# Altium schematic symbol library jlcpcb_2025_04_resistors_basic.schlib: 182 symbols (part 2 of 3)
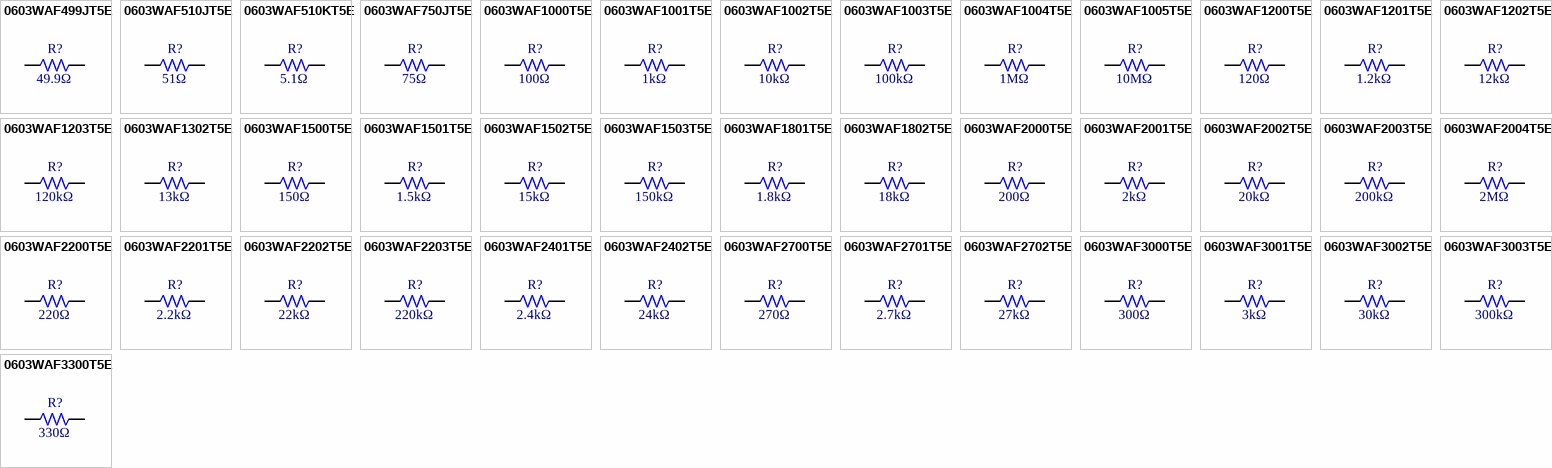
[diagram p5: symbols 0603WAF499JT5E to 0603WAF3300T5E]

## 0603WAF2001T5E
designator R?  Resistance: 2kΩ  (hidden comment: *)
Resistor, 2kΩ, ±1%, 100mW, 75V, ±100ppm/℃, -55℃~+155℃, SMD 0603; Manufacturer: Uniroyal; Manufacturer Part Number: 0603WAF2001T5E; Supplier 1: LCSC; Supplier Part Number 1: C22975; JLCPCB Part Number: C22975; Power Rating: 100mW; Category: Resistors; Package Size: 0603; JLCPCB Basic Part: Yes; Tolerance: ±1%; Voltage Rating: 75V; Temperature Coefficient: ±100ppm/℃; Temperature Rating: -55℃~+155℃; ComponentLink1Description: Datasheet; ComponentLink1URL: https://wmsc.lcsc.com/wmsc/upload/file/pdf/v2/lcsc/2206010116_UNI-ROYAL-Uniroyal-Elec-0603WAF2001T5E_C22975.pdf; ComponentLink2Description: JLCPCB Part URL; ComponentLink2URL: https://jlcpcb.com/partdetail/C22975
pins: 1, 2
1 alternate drawing of the same symbol

## 0603WAF2002T5E
designator R?  Resistance: 20kΩ  (hidden comment: *)
Resistor, 20kΩ, ±1%, 100mW, 75V, ±100ppm/℃, -55℃~+155℃, SMD 0603; Manufacturer: Uniroyal; Manufacturer Part Number: 0603WAF2002T5E; Supplier 1: LCSC; Supplier Part Number 1: C4184; JLCPCB Part Number: C4184; Power Rating: 100mW; Category: Resistors; Package Size: 0603; JLCPCB Basic Part: Yes; Tolerance: ±1%; Voltage Rating: 75V; Temperature Coefficient: ±100ppm/℃; Temperature Rating: -55℃~+155℃; ComponentLink1Description: Datasheet; ComponentLink1URL: https://wmsc.lcsc.com/wmsc/upload/file/pdf/v2/lcsc/2206010230_UNI-ROYAL-Uniroyal-Elec-0603WAF2002T5E_C4184.pdf; ComponentLink2Description: JLCPCB Part URL; ComponentLink2URL: https://jlcpcb.com/partdetail/C4184
pins: 1, 2
1 alternate drawing of the same symbol

## 0603WAF2003T5E
designator R?  Resistance: 200kΩ  (hidden comment: *)
Resistor, 200kΩ, ±1%, 100mW, 75V, ±100ppm/℃, -55℃~+155℃, SMD 0603; Manufacturer: Uniroyal; Manufacturer Part Number: 0603WAF2003T5E; Supplier 1: LCSC; Supplier Part Number 1: C25811; JLCPCB Part Number: C25811; Power Rating: 100mW; Category: Resistors; Package Size: 0603; JLCPCB Basic Part: Yes; Tolerance: ±1%; Voltage Rating: 75V; Temperature Coefficient: ±100ppm/℃; Temperature Rating: -55℃~+155℃; ComponentLink1Description: Datasheet; ComponentLink1URL: https://wmsc.lcsc.com/wmsc/upload/file/pdf/v2/lcsc/2206010045_UNI-ROYAL-Uniroyal-Elec-0603WAF2003T5E_C25811.pdf; ComponentLink2Description: JLCPCB Part URL; ComponentLink2URL: https://jlcpcb.com/partdetail/C25811
pins: 1, 2
1 alternate drawing of the same symbol

## 0603WAF2004T5E
designator R?  Resistance: 2MΩ  (hidden comment: *)
Resistor, 2MΩ, ±1%, 100mW, 75V, ±100ppm/℃, -55℃~+155℃, SMD 0603; Manufacturer: Uniroyal; Manufacturer Part Number: 0603WAF2004T5E; Supplier 1: LCSC; Supplier Part Number 1: C22976; JLCPCB Part Number: C22976; Power Rating: 100mW; Category: Resistors; Package Size: 0603; JLCPCB Basic Part: Yes; Tolerance: ±1%; Voltage Rating: 75V; Temperature Coefficient: ±100ppm/℃; Temperature Rating: -55℃~+155℃; ComponentLink1Description: Datasheet; ComponentLink1URL: https://wmsc.lcsc.com/wmsc/upload/file/pdf/v2/lcsc/2206010116_UNI-ROYAL-Uniroyal-Elec-0603WAF2004T5E_C22976.pdf; ComponentLink2Description: JLCPCB Part URL; ComponentLink2URL: https://jlcpcb.com/partdetail/C22976
pins: 1, 2
1 alternate drawing of the same symbol

## 0603WAF2200T5E
designator R?  Resistance: 220Ω  (hidden comment: *)
Resistor, 220Ω, ±1%, 100mW, 75V, ±100ppm/℃, -55℃~+155℃, SMD 0603; Manufacturer: Uniroyal; Manufacturer Part Number: 0603WAF2200T5E; Supplier 1: LCSC; Supplier Part Number 1: C22962; JLCPCB Part Number: C22962; Power Rating: 100mW; Category: Resistors; Package Size: 0603; JLCPCB Basic Part: Yes; Tolerance: ±1%; Voltage Rating: 75V; Temperature Coefficient: ±100ppm/℃; Temperature Rating: -55℃~+155℃; ComponentLink1Description: Datasheet; ComponentLink1URL: https://wmsc.lcsc.com/wmsc/upload/file/pdf/v2/lcsc/2206010130_UNI-ROYAL-Uniroyal-Elec-0603WAF2200T5E_C22962.pdf; ComponentLink2Description: JLCPCB Part URL; ComponentLink2URL: https://jlcpcb.com/partdetail/C22962
pins: 1, 2
1 alternate drawing of the same symbol

## 0603WAF2201T5E
designator R?  Resistance: 2.2kΩ  (hidden comment: *)
Resistor, 2.2kΩ, ±1%, 100mW, 75V, ±100ppm/℃, -55℃~+155℃, SMD 0603; Manufacturer: Uniroyal; Manufacturer Part Number: 0603WAF2201T5E; Supplier 1: LCSC; Supplier Part Number 1: C4190; JLCPCB Part Number: C4190; Power Rating: 100mW; Category: Resistors; Package Size: 0603; JLCPCB Basic Part: Yes; Tolerance: ±1%; Voltage Rating: 75V; Temperature Coefficient: ±100ppm/℃; Temperature Rating: -55℃~+155℃; ComponentLink1Description: Datasheet; ComponentLink1URL: https://wmsc.lcsc.com/wmsc/upload/file/pdf/v2/lcsc/2206010230_UNI-ROYAL-Uniroyal-Elec-0603WAF2201T5E_C4190.pdf; ComponentLink2Description: JLCPCB Part URL; ComponentLink2URL: https://jlcpcb.com/partdetail/C4190
pins: 1, 2
1 alternate drawing of the same symbol

## 0603WAF2202T5E
designator R?  Resistance: 22kΩ  (hidden comment: *)
Resistor, 22kΩ, ±1%, 100mW, 75V, ±100ppm/℃, -55℃~+155℃, SMD 0603; Manufacturer: Uniroyal; Manufacturer Part Number: 0603WAF2202T5E; Supplier 1: LCSC; Supplier Part Number 1: C31850; JLCPCB Part Number: C31850; Power Rating: 100mW; Category: Resistors; Package Size: 0603; JLCPCB Basic Part: Yes; Tolerance: ±1%; Voltage Rating: 75V; Temperature Coefficient: ±100ppm/℃; Temperature Rating: -55℃~+155℃; ComponentLink1Description: Datasheet; ComponentLink1URL: https://wmsc.lcsc.com/wmsc/upload/file/pdf/v2/lcsc/2206010030_UNI-ROYAL-Uniroyal-Elec-0603WAF2202T5E_C31850.pdf; ComponentLink2Description: JLCPCB Part URL; ComponentLink2URL: https://jlcpcb.com/partdetail/C31850
pins: 1, 2
1 alternate drawing of the same symbol

## 0603WAF2203T5E
designator R?  Resistance: 220kΩ  (hidden comment: *)
Resistor, 220kΩ, ±1%, 100mW, 75V, ±100ppm/℃, -55℃~+155℃, SMD 0603; Manufacturer: Uniroyal; Manufacturer Part Number: 0603WAF2203T5E; Supplier 1: LCSC; Supplier Part Number 1: C22961; JLCPCB Part Number: C22961; Power Rating: 100mW; Category: Resistors; Package Size: 0603; JLCPCB Basic Part: Yes; Tolerance: ±1%; Voltage Rating: 75V; Temperature Coefficient: ±100ppm/℃; Temperature Rating: -55℃~+155℃; ComponentLink1Description: Datasheet; ComponentLink1URL: https://wmsc.lcsc.com/wmsc/upload/file/pdf/v2/lcsc/2206010130_UNI-ROYAL-Uniroyal-Elec-0603WAF2203T5E_C22961.pdf; ComponentLink2Description: JLCPCB Part URL; ComponentLink2URL: https://jlcpcb.com/partdetail/C22961
pins: 1, 2
1 alternate drawing of the same symbol

## 0603WAF2401T5E
designator R?  Resistance: 2.4kΩ  (hidden comment: *)
Resistor, 2.4kΩ, ±1%, 100mW, 75V, ±100ppm/℃, -55℃~+155℃, SMD 0603; Manufacturer: Uniroyal; Manufacturer Part Number: 0603WAF2401T5E; Supplier 1: LCSC; Supplier Part Number 1: C22940; JLCPCB Part Number: C22940; Power Rating: 100mW; Category: Resistors; Package Size: 0603; JLCPCB Basic Part: Yes; Tolerance: ±1%; Voltage Rating: 75V; Temperature Coefficient: ±100ppm/℃; Temperature Rating: -55℃~+155℃; ComponentLink1Description: Datasheet; ComponentLink1URL: https://wmsc.lcsc.com/wmsc/upload/file/pdf/v2/lcsc/2206010130_UNI-ROYAL-Uniroyal-Elec-0603WAF2401T5E_C22940.pdf; ComponentLink2Description: JLCPCB Part URL; ComponentLink2URL: https://jlcpcb.com/partdetail/C22940
pins: 1, 2
1 alternate drawing of the same symbol

## 0603WAF2402T5E
designator R?  Resistance: 24kΩ  (hidden comment: *)
Resistor, 24kΩ, ±1%, 100mW, 75V, ±100ppm/℃, -55℃~+155℃, SMD 0603; Manufacturer: Uniroyal; Manufacturer Part Number: 0603WAF2402T5E; Supplier 1: LCSC; Supplier Part Number 1: C23352; JLCPCB Part Number: C23352; Power Rating: 100mW; Category: Resistors; Package Size: 0603; JLCPCB Basic Part: Yes; Tolerance: ±1%; Voltage Rating: 75V; Temperature Coefficient: ±100ppm/℃; Temperature Rating: -55℃~+155℃; ComponentLink1Description: Datasheet; ComponentLink1URL: https://wmsc.lcsc.com/wmsc/upload/file/pdf/v2/lcsc/2206010100_UNI-ROYAL-Uniroyal-Elec-0603WAF2402T5E_C23352.pdf; ComponentLink2Description: JLCPCB Part URL; ComponentLink2URL: https://jlcpcb.com/partdetail/C23352
pins: 1, 2
1 alternate drawing of the same symbol

## 0603WAF2700T5E
designator R?  Resistance: 270Ω  (hidden comment: *)
Resistor, 270Ω, ±1%, 100mW, 75V, ±100ppm/℃, -55℃~+155℃, SMD 0603; Manufacturer: Uniroyal; Manufacturer Part Number: 0603WAF2700T5E; Supplier 1: LCSC; Supplier Part Number 1: C22966; JLCPCB Part Number: C22966; Power Rating: 100mW; Category: Resistors; Package Size: 0603; JLCPCB Basic Part: Yes; Tolerance: ±1%; Voltage Rating: 75V; Temperature Coefficient: ±100ppm/℃; Temperature Rating: -55℃~+155℃; ComponentLink1Description: Datasheet; ComponentLink1URL: https://wmsc.lcsc.com/wmsc/upload/file/pdf/v2/lcsc/2206010130_UNI-ROYAL-Uniroyal-Elec-0603WAF2700T5E_C22966.pdf; ComponentLink2Description: JLCPCB Part URL; ComponentLink2URL: https://jlcpcb.com/partdetail/C22966
pins: 1, 2
1 alternate drawing of the same symbol

## 0603WAF2701T5E
designator R?  Resistance: 2.7kΩ  (hidden comment: *)
Resistor, 2.7kΩ, ±1%, 100mW, 75V, ±100ppm/℃, -55℃~+155℃, SMD 0603; Manufacturer: Uniroyal; Manufacturer Part Number: 0603WAF2701T5E; Supplier 1: LCSC; Supplier Part Number 1: C13167; JLCPCB Part Number: C13167; Power Rating: 100mW; Category: Resistors; Package Size: 0603; JLCPCB Basic Part: Yes; Tolerance: ±1%; Voltage Rating: 75V; Temperature Coefficient: ±100ppm/℃; Temperature Rating: -55℃~+155℃; ComponentLink1Description: Datasheet; ComponentLink1URL: https://wmsc.lcsc.com/wmsc/upload/file/pdf/v2/lcsc/2206010216_UNI-ROYAL-Uniroyal-Elec-0603WAF2701T5E_C13167.pdf; ComponentLink2Description: JLCPCB Part URL; ComponentLink2URL: https://jlcpcb.com/partdetail/C13167
pins: 1, 2
1 alternate drawing of the same symbol

## 0603WAF2702T5E
designator R?  Resistance: 27kΩ  (hidden comment: *)
Resistor, 27kΩ, ±1%, 100mW, 75V, ±100ppm/℃, -55℃~+155℃, SMD 0603; Manufacturer: Uniroyal; Manufacturer Part Number: 0603WAF2702T5E; Supplier 1: LCSC; Supplier Part Number 1: C22967; JLCPCB Part Number: C22967; Power Rating: 100mW; Category: Resistors; Package Size: 0603; JLCPCB Basic Part: Yes; Tolerance: ±1%; Voltage Rating: 75V; Temperature Coefficient: ±100ppm/℃; Temperature Rating: -55℃~+155℃; ComponentLink1Description: Datasheet; ComponentLink1URL: https://wmsc.lcsc.com/wmsc/upload/file/pdf/v2/lcsc/2206010130_UNI-ROYAL-Uniroyal-Elec-0603WAF2702T5E_C22967.pdf; ComponentLink2Description: JLCPCB Part URL; ComponentLink2URL: https://jlcpcb.com/partdetail/C22967
pins: 1, 2
1 alternate drawing of the same symbol

## 0603WAF3000T5E
designator R?  Resistance: 300Ω  (hidden comment: *)
Resistor, 300Ω, ±1%, 100mW, 75V, ±100ppm/℃, -55℃~+155℃, SMD 0603; Manufacturer: Uniroyal; Manufacturer Part Number: 0603WAF3000T5E; Supplier 1: LCSC; Supplier Part Number 1: C23025; JLCPCB Part Number: C23025; Power Rating: 100mW; Category: Resistors; Package Size: 0603; JLCPCB Basic Part: Yes; Tolerance: ±1%; Voltage Rating: 75V; Temperature Coefficient: ±100ppm/℃; Temperature Rating: -55℃~+155℃; ComponentLink1Description: Datasheet; ComponentLink1URL: https://wmsc.lcsc.com/wmsc/upload/file/pdf/v2/lcsc/2206010116_UNI-ROYAL-Uniroyal-Elec-0603WAF3000T5E_C23025.pdf; ComponentLink2Description: JLCPCB Part URL; ComponentLink2URL: https://jlcpcb.com/partdetail/C23025
pins: 1, 2
1 alternate drawing of the same symbol

## 0603WAF3001T5E
designator R?  Resistance: 3kΩ  (hidden comment: *)
Resistor, 3kΩ, ±1%, 100mW, 75V, ±100ppm/℃, -55℃~+155℃, SMD 0603; Manufacturer: Uniroyal; Manufacturer Part Number: 0603WAF3001T5E; Supplier 1: LCSC; Supplier Part Number 1: C4211; JLCPCB Part Number: C4211; Power Rating: 100mW; Category: Resistors; Package Size: 0603; JLCPCB Basic Part: Yes; Tolerance: ±1%; Voltage Rating: 75V; Temperature Coefficient: ±100ppm/℃; Temperature Rating: -55℃~+155℃; ComponentLink1Description: Datasheet; ComponentLink1URL: https://wmsc.lcsc.com/wmsc/upload/file/pdf/v2/lcsc/2206010230_UNI-ROYAL-Uniroyal-Elec-0603WAF3001T5E_C4211.pdf; ComponentLink2Description: JLCPCB Part URL; ComponentLink2URL: https://jlcpcb.com/partdetail/C4211
pins: 1, 2
1 alternate drawing of the same symbol

## 0603WAF3002T5E
designator R?  Resistance: 30kΩ  (hidden comment: *)
Resistor, 30kΩ, ±1%, 100mW, 75V, ±100ppm/℃, -55℃~+155℃, SMD 0603; Manufacturer: Uniroyal; Manufacturer Part Number: 0603WAF3002T5E; Supplier 1: LCSC; Supplier Part Number 1: C22984; JLCPCB Part Number: C22984; Power Rating: 100mW; Category: Resistors; Package Size: 0603; JLCPCB Basic Part: Yes; Tolerance: ±1%; Voltage Rating: 75V; Temperature Coefficient: ±100ppm/℃; Temperature Rating: -55℃~+155℃; ComponentLink1Description: Datasheet; ComponentLink1URL: https://wmsc.lcsc.com/wmsc/upload/file/pdf/v2/lcsc/2206010116_UNI-ROYAL-Uniroyal-Elec-0603WAF3002T5E_C22984.pdf; ComponentLink2Description: JLCPCB Part URL; ComponentLink2URL: https://jlcpcb.com/partdetail/C22984
pins: 1, 2
1 alternate drawing of the same symbol

## 0603WAF3003T5E
designator R?  Resistance: 300kΩ  (hidden comment: *)
Resistor, 300kΩ, ±1%, 100mW, 75V, ±100ppm/℃, -55℃~+155℃, SMD 0603; Manufacturer: Uniroyal; Manufacturer Part Number: 0603WAF3003T5E; Supplier 1: LCSC; Supplier Part Number 1: C23024; JLCPCB Part Number: C23024; Power Rating: 100mW; Category: Resistors; Package Size: 0603; JLCPCB Basic Part: Yes; Tolerance: ±1%; Voltage Rating: 75V; Temperature Coefficient: ±100ppm/℃; Temperature Rating: -55℃~+155℃; ComponentLink1Description: Datasheet; ComponentLink1URL: https://wmsc.lcsc.com/wmsc/upload/file/pdf/v2/lcsc/2206010116_UNI-ROYAL-Uniroyal-Elec-0603WAF3003T5E_C23024.pdf; ComponentLink2Description: JLCPCB Part URL; ComponentLink2URL: https://jlcpcb.com/partdetail/C23024
pins: 1, 2
1 alternate drawing of the same symbol

## 0603WAF3300T5E
designator R?  Resistance: 330Ω  (hidden comment: *)
Resistor, 330Ω, ±1%, 100mW, 75V, ±100ppm/℃, -55℃~+155℃, SMD 0603; Manufacturer: Uniroyal; Manufacturer Part Number: 0603WAF3300T5E; Supplier 1: LCSC; Supplier Part Number 1: C23138; JLCPCB Part Number: C23138; Power Rating: 100mW; Category: Resistors; Package Size: 0603; JLCPCB Basic Part: Yes; Tolerance: ±1%; Voltage Rating: 75V; Temperature Coefficient: ±100ppm/℃; Temperature Rating: -55℃~+155℃; ComponentLink1Description: Datasheet; ComponentLink1URL: https://wmsc.lcsc.com/wmsc/upload/file/pdf/v2/lcsc/2206010116_UNI-ROYAL-Uniroyal-Elec-0603WAF3300T5E_C23138.pdf; ComponentLink2Description: JLCPCB Part URL; ComponentLink2URL: https://jlcpcb.com/partdetail/C23138
pins: 1, 2
1 alternate drawing of the same symbol

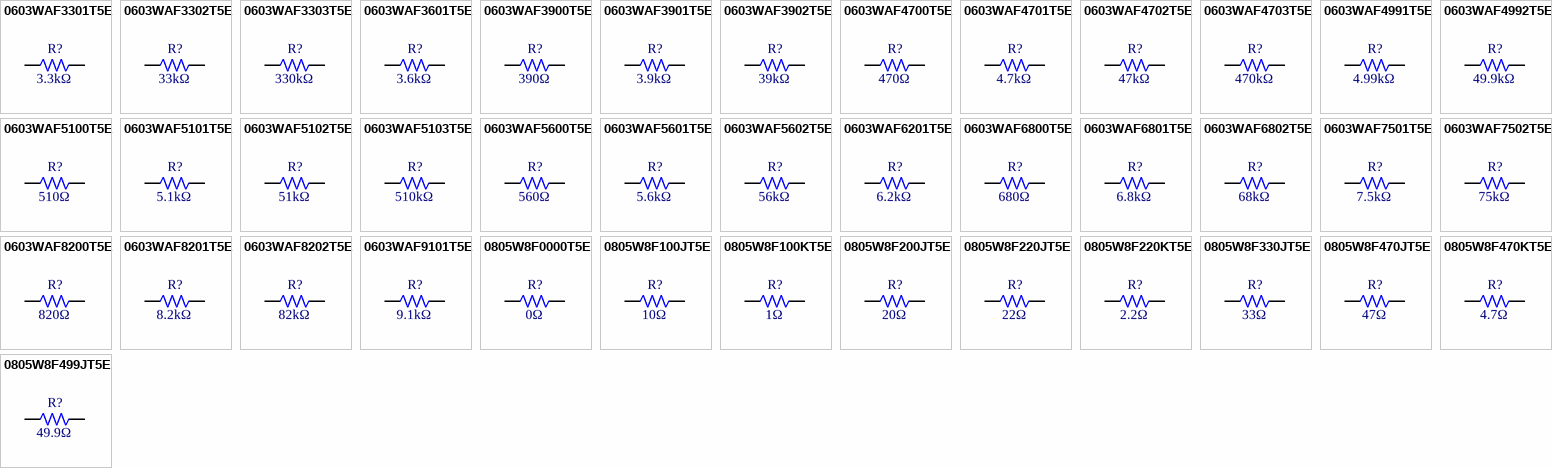
[diagram p2: symbols 0603WAF3301T5E to 0805W8F499JT5E]

## 0603WAF3301T5E
designator R?  Resistance: 3.3kΩ  (hidden comment: *)
Resistor, 3.3kΩ, ±1%, 100mW, 75V, ±100ppm/℃, -55℃~+155℃, SMD 0603; Manufacturer: Uniroyal; Manufacturer Part Number: 0603WAF3301T5E; Supplier 1: LCSC; Supplier Part Number 1: C22978; JLCPCB Part Number: C22978; Power Rating: 100mW; Category: Resistors; Package Size: 0603; JLCPCB Basic Part: Yes; Tolerance: ±1%; Voltage Rating: 75V; Temperature Coefficient: ±100ppm/℃; Temperature Rating: -55℃~+155℃; ComponentLink1Description: Datasheet; ComponentLink1URL: https://wmsc.lcsc.com/wmsc/upload/file/pdf/v2/lcsc/2206010116_UNI-ROYAL-Uniroyal-Elec-0603WAF3301T5E_C22978.pdf; ComponentLink2Description: JLCPCB Part URL; ComponentLink2URL: https://jlcpcb.com/partdetail/C22978
pins: 1, 2
1 alternate drawing of the same symbol

## 0603WAF3302T5E
designator R?  Resistance: 33kΩ  (hidden comment: *)
Resistor, 33kΩ, ±1%, 100mW, 75V, ±100ppm/℃, -55℃~+155℃, SMD 0603; Manufacturer: Uniroyal; Manufacturer Part Number: 0603WAF3302T5E; Supplier 1: LCSC; Supplier Part Number 1: C4216; JLCPCB Part Number: C4216; Power Rating: 100mW; Category: Resistors; Package Size: 0603; JLCPCB Basic Part: Yes; Tolerance: ±1%; Voltage Rating: 75V; Temperature Coefficient: ±100ppm/℃; Temperature Rating: -55℃~+155℃; ComponentLink1Description: Datasheet; ComponentLink1URL: https://wmsc.lcsc.com/wmsc/upload/file/pdf/v2/lcsc/2206010230_UNI-ROYAL-Uniroyal-Elec-0603WAF3302T5E_C4216.pdf; ComponentLink2Description: JLCPCB Part URL; ComponentLink2URL: https://jlcpcb.com/partdetail/C4216
pins: 1, 2
1 alternate drawing of the same symbol

## 0603WAF3303T5E
designator R?  Resistance: 330kΩ  (hidden comment: *)
Resistor, 330kΩ, ±1%, 100mW, 75V, ±100ppm/℃, -55℃~+155℃, SMD 0603; Manufacturer: Uniroyal; Manufacturer Part Number: 0603WAF3303T5E; Supplier 1: LCSC; Supplier Part Number 1: C23137; JLCPCB Part Number: C23137; Power Rating: 100mW; Category: Resistors; Package Size: 0603; JLCPCB Basic Part: Yes; Tolerance: ±1%; Voltage Rating: 75V; Temperature Coefficient: ±100ppm/℃; Temperature Rating: -55℃~+155℃; ComponentLink1Description: Datasheet; ComponentLink1URL: https://wmsc.lcsc.com/wmsc/upload/file/pdf/v2/lcsc/2206010116_UNI-ROYAL-Uniroyal-Elec-0603WAF3303T5E_C23137.pdf; ComponentLink2Description: JLCPCB Part URL; ComponentLink2URL: https://jlcpcb.com/partdetail/C23137
pins: 1, 2
1 alternate drawing of the same symbol

## 0603WAF3601T5E
designator R?  Resistance: 3.6kΩ  (hidden comment: *)
Resistor, 3.6kΩ, ±1%, 100mW, 75V, ±100ppm/℃, -55℃~+155℃, SMD 0603; Manufacturer: Uniroyal; Manufacturer Part Number: 0603WAF3601T5E; Supplier 1: LCSC; Supplier Part Number 1: C22980; JLCPCB Part Number: C22980; Power Rating: 100mW; Category: Resistors; Package Size: 0603; JLCPCB Basic Part: Yes; Tolerance: ±1%; Voltage Rating: 75V; Temperature Coefficient: ±100ppm/℃; Temperature Rating: -55℃~+155℃; ComponentLink1Description: Datasheet; ComponentLink1URL: https://wmsc.lcsc.com/wmsc/upload/file/pdf/v2/lcsc/2206010116_UNI-ROYAL-Uniroyal-Elec-0603WAF3601T5E_C22980.pdf; ComponentLink2Description: JLCPCB Part URL; ComponentLink2URL: https://jlcpcb.com/partdetail/C22980
pins: 1, 2
1 alternate drawing of the same symbol

## 0603WAF3900T5E
designator R?  Resistance: 390Ω  (hidden comment: *)
Resistor, 390Ω, ±1%, 100mW, 75V, ±100ppm/℃, -55℃~+155℃, SMD 0603; Manufacturer: Uniroyal; Manufacturer Part Number: 0603WAF3900T5E; Supplier 1: LCSC; Supplier Part Number 1: C23151; JLCPCB Part Number: C23151; Power Rating: 100mW; Category: Resistors; Package Size: 0603; JLCPCB Basic Part: Yes; Tolerance: ±1%; Voltage Rating: 75V; Temperature Coefficient: ±100ppm/℃; Temperature Rating: -55℃~+155℃; ComponentLink1Description: Datasheet; ComponentLink1URL: https://wmsc.lcsc.com/wmsc/upload/file/pdf/v2/lcsc/2206010116_UNI-ROYAL-Uniroyal-Elec-0603WAF3900T5E_C23151.pdf; ComponentLink2Description: JLCPCB Part URL; ComponentLink2URL: https://jlcpcb.com/partdetail/C23151
pins: 1, 2
1 alternate drawing of the same symbol

## 0603WAF3901T5E
designator R?  Resistance: 3.9kΩ  (hidden comment: *)
Resistor, 3.9kΩ, ±1%, 100mW, 75V, ±100ppm/℃, -55℃~+155℃, SMD 0603; Manufacturer: Uniroyal; Manufacturer Part Number: 0603WAF3901T5E; Supplier 1: LCSC; Supplier Part Number 1: C23018; JLCPCB Part Number: C23018; Power Rating: 100mW; Category: Resistors; Package Size: 0603; JLCPCB Basic Part: Yes; Tolerance: ±1%; Voltage Rating: 75V; Temperature Coefficient: ±100ppm/℃; Temperature Rating: -55℃~+155℃; ComponentLink1Description: Datasheet; ComponentLink1URL: https://wmsc.lcsc.com/wmsc/upload/file/pdf/v2/lcsc/2206010116_UNI-ROYAL-Uniroyal-Elec-0603WAF3901T5E_C23018.pdf; ComponentLink2Description: JLCPCB Part URL; ComponentLink2URL: https://jlcpcb.com/partdetail/C23018
pins: 1, 2
1 alternate drawing of the same symbol

## 0603WAF3902T5E
designator R?  Resistance: 39kΩ  (hidden comment: *)
Resistor, 39kΩ, ±1%, 100mW, 75V, ±100ppm/℃, -55℃~+155℃, SMD 0603; Manufacturer: Uniroyal; Manufacturer Part Number: 0603WAF3902T5E; Supplier 1: LCSC; Supplier Part Number 1: C23153; JLCPCB Part Number: C23153; Power Rating: 100mW; Category: Resistors; Package Size: 0603; JLCPCB Basic Part: Yes; Tolerance: ±1%; Voltage Rating: 75V; Temperature Coefficient: ±100ppm/℃; Temperature Rating: -55℃~+155℃; ComponentLink1Description: Datasheet; ComponentLink1URL: https://wmsc.lcsc.com/wmsc/upload/file/pdf/v2/lcsc/2206010116_UNI-ROYAL-Uniroyal-Elec-0603WAF3902T5E_C23153.pdf; ComponentLink2Description: JLCPCB Part URL; ComponentLink2URL: https://jlcpcb.com/partdetail/C23153
pins: 1, 2
1 alternate drawing of the same symbol

## 0603WAF4700T5E
designator R?  Resistance: 470Ω  (hidden comment: *)
Resistor, 470Ω, ±1%, 100mW, 75V, ±100ppm/℃, -55℃~+155℃, SMD 0603; Manufacturer: Uniroyal; Manufacturer Part Number: 0603WAF4700T5E; Supplier 1: LCSC; Supplier Part Number 1: C23179; JLCPCB Part Number: C23179; Power Rating: 100mW; Category: Resistors; Package Size: 0603; JLCPCB Basic Part: Yes; Tolerance: ±1%; Voltage Rating: 75V; Temperature Coefficient: ±100ppm/℃; Temperature Rating: -55℃~+155℃; ComponentLink1Description: Datasheet; ComponentLink1URL: https://wmsc.lcsc.com/wmsc/upload/file/pdf/v2/lcsc/2206010116_UNI-ROYAL-Uniroyal-Elec-0603WAF4700T5E_C23179.pdf; ComponentLink2Description: JLCPCB Part URL; ComponentLink2URL: https://jlcpcb.com/partdetail/C23179
pins: 1, 2
1 alternate drawing of the same symbol

## 0603WAF4701T5E
designator R?  Resistance: 4.7kΩ  (hidden comment: *)
Resistor, 4.7kΩ, ±1%, 100mW, 75V, ±100ppm/℃, -55℃~+155℃, SMD 0603; Manufacturer: Uniroyal; Manufacturer Part Number: 0603WAF4701T5E; Supplier 1: LCSC; Supplier Part Number 1: C23162; JLCPCB Part Number: C23162; Power Rating: 100mW; Category: Resistors; Package Size: 0603; JLCPCB Basic Part: Yes; Tolerance: ±1%; Voltage Rating: 75V; Temperature Coefficient: ±100ppm/℃; Temperature Rating: -55℃~+155℃; ComponentLink1Description: Datasheet; ComponentLink1URL: https://wmsc.lcsc.com/wmsc/upload/file/pdf/v2/lcsc/2206010116_UNI-ROYAL-Uniroyal-Elec-0603WAF4701T5E_C23162.pdf; ComponentLink2Description: JLCPCB Part URL; ComponentLink2URL: https://jlcpcb.com/partdetail/C23162
pins: 1, 2
1 alternate drawing of the same symbol

## 0603WAF4702T5E
designator R?  Resistance: 47kΩ  (hidden comment: *)
Resistor, 47kΩ, ±1%, 100mW, 75V, ±100ppm/℃, -55℃~+155℃, SMD 0603; Manufacturer: Uniroyal; Manufacturer Part Number: 0603WAF4702T5E; Supplier 1: LCSC; Supplier Part Number 1: C25819; JLCPCB Part Number: C25819; Power Rating: 100mW; Category: Resistors; Package Size: 0603; JLCPCB Basic Part: Yes; Tolerance: ±1%; Voltage Rating: 75V; Temperature Coefficient: ±100ppm/℃; Temperature Rating: -55℃~+155℃; ComponentLink1Description: Datasheet; ComponentLink1URL: https://wmsc.lcsc.com/wmsc/upload/file/pdf/v2/lcsc/2206010045_UNI-ROYAL-Uniroyal-Elec-0603WAF4702T5E_C25819.pdf; ComponentLink2Description: JLCPCB Part URL; ComponentLink2URL: https://jlcpcb.com/partdetail/C25819
pins: 1, 2
1 alternate drawing of the same symbol

## 0603WAF4703T5E
designator R?  Resistance: 470kΩ  (hidden comment: *)
Resistor, 470kΩ, ±1%, 100mW, 75V, ±100ppm/℃, -55℃~+155℃, SMD 0603; Manufacturer: Uniroyal; Manufacturer Part Number: 0603WAF4703T5E; Supplier 1: LCSC; Supplier Part Number 1: C23178; JLCPCB Part Number: C23178; Power Rating: 100mW; Category: Resistors; Package Size: 0603; JLCPCB Basic Part: Yes; Tolerance: ±1%; Voltage Rating: 75V; Temperature Coefficient: ±100ppm/℃; Temperature Rating: -55℃~+155℃; ComponentLink1Description: Datasheet; ComponentLink1URL: https://wmsc.lcsc.com/wmsc/upload/file/pdf/v2/lcsc/2206010116_UNI-ROYAL-Uniroyal-Elec-0603WAF4703T5E_C23178.pdf; ComponentLink2Description: JLCPCB Part URL; ComponentLink2URL: https://jlcpcb.com/partdetail/C23178
pins: 1, 2
1 alternate drawing of the same symbol

## 0603WAF4991T5E
designator R?  Resistance: 4.99kΩ  (hidden comment: *)
Resistor, 4.99kΩ, ±1%, 100mW, 75V, ±100ppm/℃, -55℃~+155℃, SMD 0603; Manufacturer: Uniroyal; Manufacturer Part Number: 0603WAF4991T5E; Supplier 1: LCSC; Supplier Part Number 1: C23046; JLCPCB Part Number: C23046; Power Rating: 100mW; Category: Resistors; Package Size: 0603; JLCPCB Basic Part: Yes; Tolerance: ±1%; Voltage Rating: 75V; Temperature Coefficient: ±100ppm/℃; Temperature Rating: -55℃~+155℃; ComponentLink1Description: Datasheet; ComponentLink1URL: https://wmsc.lcsc.com/wmsc/upload/file/pdf/v2/lcsc/2206010116_UNI-ROYAL-Uniroyal-Elec-0603WAF4991T5E_C23046.pdf; ComponentLink2Description: JLCPCB Part URL; ComponentLink2URL: https://jlcpcb.com/partdetail/C23046
pins: 1, 2
1 alternate drawing of the same symbol

## 0603WAF4992T5E
designator R?  Resistance: 49.9kΩ  (hidden comment: *)
Resistor, 49.9kΩ, ±1%, 100mW, 75V, ±100ppm/℃, -55℃~+155℃, SMD 0603; Manufacturer: Uniroyal; Manufacturer Part Number: 0603WAF4992T5E; Supplier 1: LCSC; Supplier Part Number 1: C23184; JLCPCB Part Number: C23184; Power Rating: 100mW; Category: Resistors; Package Size: 0603; JLCPCB Basic Part: Yes; Tolerance: ±1%; Voltage Rating: 75V; Temperature Coefficient: ±100ppm/℃; Temperature Rating: -55℃~+155℃; ComponentLink1Description: Datasheet; ComponentLink1URL: https://wmsc.lcsc.com/wmsc/upload/file/pdf/v2/lcsc/2206010116_UNI-ROYAL-Uniroyal-Elec-0603WAF4992T5E_C23184.pdf; ComponentLink2Description: JLCPCB Part URL; ComponentLink2URL: https://jlcpcb.com/partdetail/C23184
pins: 1, 2
1 alternate drawing of the same symbol

## 0603WAF5100T5E
designator R?  Resistance: 510Ω  (hidden comment: *)
Resistor, 510Ω, ±1%, 100mW, 75V, ±100ppm/℃, -55℃~+155℃, SMD 0603; Manufacturer: Uniroyal; Manufacturer Part Number: 0603WAF5100T5E; Supplier 1: LCSC; Supplier Part Number 1: C23193; JLCPCB Part Number: C23193; Power Rating: 100mW; Category: Resistors; Package Size: 0603; JLCPCB Basic Part: Yes; Tolerance: ±1%; Voltage Rating: 75V; Temperature Coefficient: ±100ppm/℃; Temperature Rating: -55℃~+155℃; ComponentLink1Description: Datasheet; ComponentLink1URL: https://wmsc.lcsc.com/wmsc/upload/file/pdf/v2/lcsc/2206010116_UNI-ROYAL-Uniroyal-Elec-0603WAF5100T5E_C23193.pdf; ComponentLink2Description: JLCPCB Part URL; ComponentLink2URL: https://jlcpcb.com/partdetail/C23193
pins: 1, 2
1 alternate drawing of the same symbol

## 0603WAF5101T5E
designator R?  Resistance: 5.1kΩ  (hidden comment: *)
Resistor, 5.1kΩ, ±1%, 100mW, 75V, ±100ppm/℃, -55℃~+155℃, SMD 0603; Manufacturer: Uniroyal; Manufacturer Part Number: 0603WAF5101T5E; Supplier 1: LCSC; Supplier Part Number 1: C23186; JLCPCB Part Number: C23186; Power Rating: 100mW; Category: Resistors; Package Size: 0603; JLCPCB Basic Part: Yes; Tolerance: ±1%; Voltage Rating: 75V; Temperature Coefficient: ±100ppm/℃; Temperature Rating: -55℃~+155℃; ComponentLink1Description: Datasheet; ComponentLink1URL: https://wmsc.lcsc.com/wmsc/upload/file/pdf/v2/lcsc/2206010116_UNI-ROYAL-Uniroyal-Elec-0603WAF5101T5E_C23186.pdf; ComponentLink2Description: JLCPCB Part URL; ComponentLink2URL: https://jlcpcb.com/partdetail/C23186
pins: 1, 2
1 alternate drawing of the same symbol

## 0603WAF5102T5E
designator R?  Resistance: 51kΩ  (hidden comment: *)
Resistor, 51kΩ, ±1%, 100mW, 75V, ±100ppm/℃, -55℃~+155℃, SMD 0603; Manufacturer: Uniroyal; Manufacturer Part Number: 0603WAF5102T5E; Supplier 1: LCSC; Supplier Part Number 1: C23196; JLCPCB Part Number: C23196; Power Rating: 100mW; Category: Resistors; Package Size: 0603; JLCPCB Basic Part: Yes; Tolerance: ±1%; Voltage Rating: 75V; Temperature Coefficient: ±100ppm/℃; Temperature Rating: -55℃~+155℃; ComponentLink1Description: Datasheet; ComponentLink1URL: https://wmsc.lcsc.com/wmsc/upload/file/pdf/v2/lcsc/2206010116_UNI-ROYAL-Uniroyal-Elec-0603WAF5102T5E_C23196.pdf; ComponentLink2Description: JLCPCB Part URL; ComponentLink2URL: https://jlcpcb.com/partdetail/C23196
pins: 1, 2
1 alternate drawing of the same symbol

## 0603WAF5103T5E
designator R?  Resistance: 510kΩ  (hidden comment: *)
Resistor, 510kΩ, ±1%, 100mW, 75V, ±100ppm/℃, -55℃~+155℃, SMD 0603; Manufacturer: Uniroyal; Manufacturer Part Number: 0603WAF5103T5E; Supplier 1: LCSC; Supplier Part Number 1: C23192; JLCPCB Part Number: C23192; Power Rating: 100mW; Category: Resistors; Package Size: 0603; JLCPCB Basic Part: Yes; Tolerance: ±1%; Voltage Rating: 75V; Temperature Coefficient: ±100ppm/℃; Temperature Rating: -55℃~+155℃; ComponentLink1Description: Datasheet; ComponentLink1URL: https://wmsc.lcsc.com/wmsc/upload/file/pdf/v2/lcsc/2206010116_UNI-ROYAL-Uniroyal-Elec-0603WAF5103T5E_C23192.pdf; ComponentLink2Description: JLCPCB Part URL; ComponentLink2URL: https://jlcpcb.com/partdetail/C23192
pins: 1, 2
1 alternate drawing of the same symbol

## 0603WAF5600T5E
designator R?  Resistance: 560Ω  (hidden comment: *)
Resistor, 560Ω, ±1%, 100mW, 75V, ±100ppm/℃, -55℃~+155℃, SMD 0603; Manufacturer: Uniroyal; Manufacturer Part Number: 0603WAF5600T5E; Supplier 1: LCSC; Supplier Part Number 1: C23204; JLCPCB Part Number: C23204; Power Rating: 100mW; Category: Resistors; Package Size: 0603; JLCPCB Basic Part: Yes; Tolerance: ±1%; Voltage Rating: 75V; Temperature Coefficient: ±100ppm/℃; Temperature Rating: -55℃~+155℃; ComponentLink1Description: Datasheet; ComponentLink1URL: https://wmsc.lcsc.com/wmsc/upload/file/pdf/v2/lcsc/2206010116_UNI-ROYAL-Uniroyal-Elec-0603WAF5600T5E_C23204.pdf; ComponentLink2Description: JLCPCB Part URL; ComponentLink2URL: https://jlcpcb.com/partdetail/C23204
pins: 1, 2
1 alternate drawing of the same symbol

## 0603WAF5601T5E
designator R?  Resistance: 5.6kΩ  (hidden comment: *)
Resistor, 5.6kΩ, ±1%, 100mW, 75V, ±100ppm/℃, -55℃~+155℃, SMD 0603; Manufacturer: Uniroyal; Manufacturer Part Number: 0603WAF5601T5E; Supplier 1: LCSC; Supplier Part Number 1: C23189; JLCPCB Part Number: C23189; Power Rating: 100mW; Category: Resistors; Package Size: 0603; JLCPCB Basic Part: Yes; Tolerance: ±1%; Voltage Rating: 75V; Temperature Coefficient: ±100ppm/℃; Temperature Rating: -55℃~+155℃; ComponentLink1Description: Datasheet; ComponentLink1URL: https://wmsc.lcsc.com/wmsc/upload/file/pdf/v2/lcsc/2206010116_UNI-ROYAL-Uniroyal-Elec-0603WAF5601T5E_C23189.pdf; ComponentLink2Description: JLCPCB Part URL; ComponentLink2URL: https://jlcpcb.com/partdetail/C23189
pins: 1, 2
1 alternate drawing of the same symbol

## 0603WAF5602T5E
designator R?  Resistance: 56kΩ  (hidden comment: *)
Resistor, 56kΩ, ±1%, 100mW, 75V, ±100ppm/℃, -55℃~+155℃, SMD 0603; Manufacturer: Uniroyal; Manufacturer Part Number: 0603WAF5602T5E; Supplier 1: LCSC; Supplier Part Number 1: C23206; JLCPCB Part Number: C23206; Power Rating: 100mW; Category: Resistors; Package Size: 0603; JLCPCB Basic Part: Yes; Tolerance: ±1%; Voltage Rating: 75V; Temperature Coefficient: ±100ppm/℃; Temperature Rating: -55℃~+155℃; ComponentLink1Description: Datasheet; ComponentLink1URL: https://wmsc.lcsc.com/wmsc/upload/file/pdf/v2/lcsc/2206010116_UNI-ROYAL-Uniroyal-Elec-0603WAF5602T5E_C23206.pdf; ComponentLink2Description: JLCPCB Part URL; ComponentLink2URL: https://jlcpcb.com/partdetail/C23206
pins: 1, 2
1 alternate drawing of the same symbol

## 0603WAF6201T5E
designator R?  Resistance: 6.2kΩ  (hidden comment: *)
Resistor, 6.2kΩ, ±1%, 100mW, 75V, ±100ppm/℃, -55℃~+155℃, SMD 0603; Manufacturer: Uniroyal; Manufacturer Part Number: 0603WAF6201T5E; Supplier 1: LCSC; Supplier Part Number 1: C4260; JLCPCB Part Number: C4260; Power Rating: 100mW; Category: Resistors; Package Size: 0603; JLCPCB Basic Part: Yes; Tolerance: ±1%; Voltage Rating: 75V; Temperature Coefficient: ±100ppm/℃; Temperature Rating: -55℃~+155℃; ComponentLink1Description: Datasheet; ComponentLink1URL: https://wmsc.lcsc.com/wmsc/upload/file/pdf/v2/lcsc/2206010230_UNI-ROYAL-Uniroyal-Elec-0603WAF6201T5E_C4260.pdf; ComponentLink2Description: JLCPCB Part URL; ComponentLink2URL: https://jlcpcb.com/partdetail/C4260
pins: 1, 2
1 alternate drawing of the same symbol

## 0603WAF6800T5E
designator R?  Resistance: 680Ω  (hidden comment: *)
Resistor, 680Ω, ±1%, 100mW, 75V, ±100ppm/℃, -55℃~+155℃, SMD 0603; Manufacturer: Uniroyal; Manufacturer Part Number: 0603WAF6800T5E; Supplier 1: LCSC; Supplier Part Number 1: C23228; JLCPCB Part Number: C23228; Power Rating: 100mW; Category: Resistors; Package Size: 0603; JLCPCB Basic Part: Yes; Tolerance: ±1%; Voltage Rating: 75V; Temperature Coefficient: ±100ppm/℃; Temperature Rating: -55℃~+155℃; ComponentLink1Description: Datasheet; ComponentLink1URL: https://wmsc.lcsc.com/wmsc/upload/file/pdf/v2/lcsc/2206010100_UNI-ROYAL-Uniroyal-Elec-0603WAF6800T5E_C23228.pdf; ComponentLink2Description: JLCPCB Part URL; ComponentLink2URL: https://jlcpcb.com/partdetail/C23228
pins: 1, 2
1 alternate drawing of the same symbol

## 0603WAF6801T5E
designator R?  Resistance: 6.8kΩ  (hidden comment: *)
Resistor, 6.8kΩ, ±1%, 100mW, 75V, ±100ppm/℃, -55℃~+155℃, SMD 0603; Manufacturer: Uniroyal; Manufacturer Part Number: 0603WAF6801T5E; Supplier 1: LCSC; Supplier Part Number 1: C23212; JLCPCB Part Number: C23212; Power Rating: 100mW; Category: Resistors; Package Size: 0603; JLCPCB Basic Part: Yes; Tolerance: ±1%; Voltage Rating: 75V; Temperature Coefficient: ±100ppm/℃; Temperature Rating: -55℃~+155℃; ComponentLink1Description: Datasheet; ComponentLink1URL: https://wmsc.lcsc.com/wmsc/upload/file/pdf/v2/lcsc/2206010116_UNI-ROYAL-Uniroyal-Elec-0603WAF6801T5E_C23212.pdf; ComponentLink2Description: JLCPCB Part URL; ComponentLink2URL: https://jlcpcb.com/partdetail/C23212
pins: 1, 2
1 alternate drawing of the same symbol

## 0603WAF6802T5E
designator R?  Resistance: 68kΩ  (hidden comment: *)
Resistor, 68kΩ, ±1%, 100mW, 75V, ±100ppm/℃, -55℃~+155℃, SMD 0603; Manufacturer: Uniroyal; Manufacturer Part Number: 0603WAF6802T5E; Supplier 1: LCSC; Supplier Part Number 1: C23231; JLCPCB Part Number: C23231; Power Rating: 100mW; Category: Resistors; Package Size: 0603; JLCPCB Basic Part: Yes; Tolerance: ±1%; Voltage Rating: 75V; Temperature Coefficient: ±100ppm/℃; Temperature Rating: -55℃~+155℃; ComponentLink1Description: Datasheet; ComponentLink1URL: https://wmsc.lcsc.com/wmsc/upload/file/pdf/v2/lcsc/2206010100_UNI-ROYAL-Uniroyal-Elec-0603WAF6802T5E_C23231.pdf; ComponentLink2Description: JLCPCB Part URL; ComponentLink2URL: https://jlcpcb.com/partdetail/C23231
pins: 1, 2
1 alternate drawing of the same symbol

## 0603WAF7501T5E
designator R?  Resistance: 7.5kΩ  (hidden comment: *)
Resistor, 7.5kΩ, ±1%, 100mW, 75V, ±100ppm/℃, -55℃~+155℃, SMD 0603; Manufacturer: Uniroyal; Manufacturer Part Number: 0603WAF7501T5E; Supplier 1: LCSC; Supplier Part Number 1: C23234; JLCPCB Part Number: C23234; Power Rating: 100mW; Category: Resistors; Package Size: 0603; JLCPCB Basic Part: Yes; Tolerance: ±1%; Voltage Rating: 75V; Temperature Coefficient: ±100ppm/℃; Temperature Rating: -55℃~+155℃; ComponentLink1Description: Datasheet; ComponentLink1URL: https://wmsc.lcsc.com/wmsc/upload/file/pdf/v2/lcsc/2206010100_UNI-ROYAL-Uniroyal-Elec-0603WAF7501T5E_C23234.pdf; ComponentLink2Description: JLCPCB Part URL; ComponentLink2URL: https://jlcpcb.com/partdetail/C23234
pins: 1, 2
1 alternate drawing of the same symbol

## 0603WAF7502T5E
designator R?  Resistance: 75kΩ  (hidden comment: *)
Resistor, 75kΩ, ±1%, 100mW, 75V, ±100ppm/℃, -55℃~+155℃, SMD 0603; Manufacturer: Uniroyal; Manufacturer Part Number: 0603WAF7502T5E; Supplier 1: LCSC; Supplier Part Number 1: C23242; JLCPCB Part Number: C23242; Power Rating: 100mW; Category: Resistors; Package Size: 0603; JLCPCB Basic Part: Yes; Tolerance: ±1%; Voltage Rating: 75V; Temperature Coefficient: ±100ppm/℃; Temperature Rating: -55℃~+155℃; ComponentLink1Description: Datasheet; ComponentLink1URL: https://wmsc.lcsc.com/wmsc/upload/file/pdf/v2/lcsc/2206010100_UNI-ROYAL-Uniroyal-Elec-0603WAF7502T5E_C23242.pdf; ComponentLink2Description: JLCPCB Part URL; ComponentLink2URL: https://jlcpcb.com/partdetail/C23242
pins: 1, 2
1 alternate drawing of the same symbol

## 0603WAF8200T5E
designator R?  Resistance: 820Ω  (hidden comment: *)
Resistor, 820Ω, ±1%, 100mW, 75V, ±100ppm/℃, -55℃~+155℃, SMD 0603; Manufacturer: Uniroyal; Manufacturer Part Number: 0603WAF8200T5E; Supplier 1: LCSC; Supplier Part Number 1: C23253; JLCPCB Part Number: C23253; Power Rating: 100mW; Category: Resistors; Package Size: 0603; JLCPCB Basic Part: Yes; Tolerance: ±1%; Voltage Rating: 75V; Temperature Coefficient: ±100ppm/℃; Temperature Rating: -55℃~+155℃; ComponentLink1Description: Datasheet; ComponentLink1URL: https://wmsc.lcsc.com/wmsc/upload/file/pdf/v2/lcsc/2206010100_UNI-ROYAL-Uniroyal-Elec-0603WAF8200T5E_C23253.pdf; ComponentLink2Description: JLCPCB Part URL; ComponentLink2URL: https://jlcpcb.com/partdetail/C23253
pins: 1, 2
1 alternate drawing of the same symbol

## 0603WAF8201T5E
designator R?  Resistance: 8.2kΩ  (hidden comment: *)
Resistor, 8.2kΩ, ±1%, 100mW, 75V, ±100ppm/℃, -55℃~+155℃, SMD 0603; Manufacturer: Uniroyal; Manufacturer Part Number: 0603WAF8201T5E; Supplier 1: LCSC; Supplier Part Number 1: C25981; JLCPCB Part Number: C25981; Power Rating: 100mW; Category: Resistors; Package Size: 0603; JLCPCB Basic Part: Yes; Tolerance: ±1%; Voltage Rating: 75V; Temperature Coefficient: ±100ppm/℃; Temperature Rating: -55℃~+155℃; ComponentLink1Description: Datasheet; ComponentLink1URL: https://wmsc.lcsc.com/wmsc/upload/file/pdf/v2/lcsc/2206010045_UNI-ROYAL-Uniroyal-Elec-0603WAF8201T5E_C25981.pdf; ComponentLink2Description: JLCPCB Part URL; ComponentLink2URL: https://jlcpcb.com/partdetail/C25981
pins: 1, 2
1 alternate drawing of the same symbol

## 0603WAF8202T5E
designator R?  Resistance: 82kΩ  (hidden comment: *)
Resistor, 82kΩ, ±1%, 100mW, 75V, ±100ppm/℃, -55℃~+155℃, SMD 0603; Manufacturer: Uniroyal; Manufacturer Part Number: 0603WAF8202T5E; Supplier 1: LCSC; Supplier Part Number 1: C23254; JLCPCB Part Number: C23254; Power Rating: 100mW; Category: Resistors; Package Size: 0603; JLCPCB Basic Part: Yes; Tolerance: ±1%; Voltage Rating: 75V; Temperature Coefficient: ±100ppm/℃; Temperature Rating: -55℃~+155℃; ComponentLink1Description: Datasheet; ComponentLink1URL: https://wmsc.lcsc.com/wmsc/upload/file/pdf/v2/lcsc/2206010100_UNI-ROYAL-Uniroyal-Elec-0603WAF8202T5E_C23254.pdf; ComponentLink2Description: JLCPCB Part URL; ComponentLink2URL: https://jlcpcb.com/partdetail/C23254
pins: 1, 2
1 alternate drawing of the same symbol

## 0603WAF9101T5E
designator R?  Resistance: 9.1kΩ  (hidden comment: *)
Resistor, 9.1kΩ, ±1%, 100mW, 75V, ±100ppm/℃, -55℃~+155℃, SMD 0603; Manufacturer: Uniroyal; Manufacturer Part Number: 0603WAF9101T5E; Supplier 1: LCSC; Supplier Part Number 1: C23260; JLCPCB Part Number: C23260; Power Rating: 100mW; Category: Resistors; Package Size: 0603; JLCPCB Basic Part: Yes; Tolerance: ±1%; Voltage Rating: 75V; Temperature Coefficient: ±100ppm/℃; Temperature Rating: -55℃~+155℃; ComponentLink1Description: Datasheet; ComponentLink1URL: https://wmsc.lcsc.com/wmsc/upload/file/pdf/v2/lcsc/2206010100_UNI-ROYAL-Uniroyal-Elec-0603WAF9101T5E_C23260.pdf; ComponentLink2Description: JLCPCB Part URL; ComponentLink2URL: https://jlcpcb.com/partdetail/C23260
pins: 1, 2
1 alternate drawing of the same symbol

## 0805W8F0000T5E
designator R?  Resistance: 0Ω  (hidden comment: *)
Resistor, 0Ω, ±1%, 125mW, 150V, ±800ppm/℃, -55℃~+155℃, SMD 0805; Manufacturer: Uniroyal; Manufacturer Part Number: 0805W8F0000T5E; Supplier 1: LCSC; Supplier Part Number 1: C17477; JLCPCB Part Number: C17477; Power Rating: 125mW; Category: Resistors; Package Size: 0805; JLCPCB Basic Part: Yes; Tolerance: ±1%; Voltage Rating: 150V; Temperature Coefficient: ±800ppm/℃; Temperature Rating: -55℃~+155℃; ComponentLink1Description: Datasheet; ComponentLink1URL: https://wmsc.lcsc.com/wmsc/upload/file/pdf/v2/lcsc/2206010216_UNI-ROYAL-Uniroyal-Elec-0805W8F0000T5E_C17477.pdf; ComponentLink2Description: JLCPCB Part URL; ComponentLink2URL: https://jlcpcb.com/partdetail/C17477
pins: 1, 2
1 alternate drawing of the same symbol

## 0805W8F100JT5E
designator R?  Resistance: 10Ω  (hidden comment: *)
Resistor, 10Ω, ±1%, 125mW, 150V, ±200ppm/℃, -55℃~+155℃, SMD 0805; Manufacturer: Uniroyal; Manufacturer Part Number: 0805W8F100JT5E; Supplier 1: LCSC; Supplier Part Number 1: C17415; JLCPCB Part Number: C17415; Power Rating: 125mW; Category: Resistors; Package Size: 0805; JLCPCB Basic Part: Yes; Tolerance: ±1%; Voltage Rating: 150V; Temperature Coefficient: ±200ppm/℃; Temperature Rating: -55℃~+155℃; ComponentLink1Description: Datasheet; ComponentLink1URL: https://wmsc.lcsc.com/wmsc/upload/file/pdf/v2/lcsc/2206010216_UNI-ROYAL-Uniroyal-Elec-0805W8F100JT5E_C17415.pdf; ComponentLink2Description: JLCPCB Part URL; ComponentLink2URL: https://jlcpcb.com/partdetail/C17415
pins: 1, 2
1 alternate drawing of the same symbol

## 0805W8F100KT5E
designator R?  Resistance: 1Ω  (hidden comment: *)
Resistor, 1Ω, ±1%, 125mW, 150V, ±400ppm/℃, -55℃~+155℃, SMD 0805; Manufacturer: Uniroyal; Manufacturer Part Number: 0805W8F100KT5E; Supplier 1: LCSC; Supplier Part Number 1: C25271; JLCPCB Part Number: C25271; Power Rating: 125mW; Category: Resistors; Package Size: 0805; JLCPCB Basic Part: Yes; Tolerance: ±1%; Voltage Rating: 150V; Temperature Coefficient: ±400ppm/℃; Temperature Rating: -55℃~+155℃; ComponentLink1Description: Datasheet; ComponentLink1URL: https://wmsc.lcsc.com/wmsc/upload/file/pdf/v2/lcsc/2205311845_UNI-ROYAL-Uniroyal-Elec-0805W8F100KT5E_C25271.pdf; ComponentLink2Description: JLCPCB Part URL; ComponentLink2URL: https://jlcpcb.com/partdetail/C25271
pins: 1, 2
1 alternate drawing of the same symbol

## 0805W8F200JT5E
designator R?  Resistance: 20Ω  (hidden comment: *)
Resistor, 20Ω, ±1%, 125mW, 150V, ±200ppm/℃, -55℃~+155℃, SMD 0805; Manufacturer: Uniroyal; Manufacturer Part Number: 0805W8F200JT5E; Supplier 1: LCSC; Supplier Part Number 1: C17544; JLCPCB Part Number: C17544; Power Rating: 125mW; Category: Resistors; Package Size: 0805; JLCPCB Basic Part: Yes; Tolerance: ±1%; Voltage Rating: 150V; Temperature Coefficient: ±200ppm/℃; Temperature Rating: -55℃~+155℃; ComponentLink1Description: Datasheet; ComponentLink1URL: https://wmsc.lcsc.com/wmsc/upload/file/pdf/v2/lcsc/2206010200_UNI-ROYAL-Uniroyal-Elec-0805W8F200JT5E_C17544.pdf; ComponentLink2Description: JLCPCB Part URL; ComponentLink2URL: https://jlcpcb.com/partdetail/C17544
pins: 1, 2
1 alternate drawing of the same symbol

## 0805W8F220JT5E
designator R?  Resistance: 22Ω  (hidden comment: *)
Resistor, 22Ω, ±1%, 125mW, 150V, ±100ppm/℃, -55℃~+155℃, SMD 0805; Manufacturer: Uniroyal; Manufacturer Part Number: 0805W8F220JT5E; Supplier 1: LCSC; Supplier Part Number 1: C17561; JLCPCB Part Number: C17561; Power Rating: 125mW; Category: Resistors; Package Size: 0805; JLCPCB Basic Part: Yes; Tolerance: ±1%; Voltage Rating: 150V; Temperature Coefficient: ±100ppm/℃; Temperature Rating: -55℃~+155℃; ComponentLink1Description: Datasheet; ComponentLink1URL: https://wmsc.lcsc.com/wmsc/upload/file/pdf/v2/lcsc/2206010200_UNI-ROYAL-Uniroyal-Elec-0805W8F220JT5E_C17561.pdf; ComponentLink2Description: JLCPCB Part URL; ComponentLink2URL: https://jlcpcb.com/partdetail/C17561
pins: 1, 2
1 alternate drawing of the same symbol

## 0805W8F220KT5E
designator R?  Resistance: 2.2Ω  (hidden comment: *)
Resistor, 2.2Ω, ±1%, 125mW, 150V, ±400ppm/℃, -55℃~+155℃, SMD 0805; Manufacturer: Uniroyal; Manufacturer Part Number: 0805W8F220KT5E; Supplier 1: LCSC; Supplier Part Number 1: C17521; JLCPCB Part Number: C17521; Power Rating: 125mW; Category: Resistors; Package Size: 0805; JLCPCB Basic Part: Yes; Tolerance: ±1%; Voltage Rating: 150V; Temperature Coefficient: ±400ppm/℃; Temperature Rating: -55℃~+155℃; ComponentLink1Description: Datasheet; ComponentLink1URL: https://wmsc.lcsc.com/wmsc/upload/file/pdf/v2/lcsc/2206010200_UNI-ROYAL-Uniroyal-Elec-0805W8F220KT5E_C17521.pdf; ComponentLink2Description: JLCPCB Part URL; ComponentLink2URL: https://jlcpcb.com/partdetail/C17521
pins: 1, 2
1 alternate drawing of the same symbol

## 0805W8F330JT5E
designator R?  Resistance: 33Ω  (hidden comment: *)
Resistor, 33Ω, ±1%, 125mW, 150V, ±200ppm/℃, -55℃~+155℃, SMD 0805; Manufacturer: Uniroyal; Manufacturer Part Number: 0805W8F330JT5E; Supplier 1: LCSC; Supplier Part Number 1: C17634; JLCPCB Part Number: C17634; Power Rating: 125mW; Category: Resistors; Package Size: 0805; JLCPCB Basic Part: Yes; Tolerance: ±1%; Voltage Rating: 150V; Temperature Coefficient: ±200ppm/℃; Temperature Rating: -55℃~+155℃; ComponentLink1Description: Datasheet; ComponentLink1URL: https://wmsc.lcsc.com/wmsc/upload/file/pdf/v2/lcsc/2205311830_UNI-ROYAL-Uniroyal-Elec-0805W8F330JT5E_C17634.pdf; ComponentLink2Description: JLCPCB Part URL; ComponentLink2URL: https://jlcpcb.com/partdetail/C17634
pins: 1, 2
1 alternate drawing of the same symbol

## 0805W8F470JT5E
designator R?  Resistance: 47Ω  (hidden comment: *)
Resistor, 47Ω, ±1%, 125mW, 150V, ±200ppm/℃, -55℃~+155℃, SMD 0805; Manufacturer: Uniroyal; Manufacturer Part Number: 0805W8F470JT5E; Supplier 1: LCSC; Supplier Part Number 1: C17714; JLCPCB Part Number: C17714; Power Rating: 125mW; Category: Resistors; Package Size: 0805; JLCPCB Basic Part: Yes; Tolerance: ±1%; Voltage Rating: 150V; Temperature Coefficient: ±200ppm/℃; Temperature Rating: -55℃~+155℃; ComponentLink1Description: Datasheet; ComponentLink1URL: https://wmsc.lcsc.com/wmsc/upload/file/pdf/v2/lcsc/2206010200_UNI-ROYAL-Uniroyal-Elec-0805W8F470JT5E_C17714.pdf; ComponentLink2Description: JLCPCB Part URL; ComponentLink2URL: https://jlcpcb.com/partdetail/C17714
pins: 1, 2
1 alternate drawing of the same symbol

## 0805W8F470KT5E
designator R?  Resistance: 4.7Ω  (hidden comment: *)
Resistor, 4.7Ω, ±1%, 125mW, 150V, ±200ppm/℃, -55℃~+155℃, SMD 0805; Manufacturer: Uniroyal; Manufacturer Part Number: 0805W8F470KT5E; Supplier 1: LCSC; Supplier Part Number 1: C17675; JLCPCB Part Number: C17675; Power Rating: 125mW; Category: Resistors; Package Size: 0805; JLCPCB Basic Part: Yes; Tolerance: ±1%; Voltage Rating: 150V; Temperature Coefficient: ±200ppm/℃; Temperature Rating: -55℃~+155℃; ComponentLink1Description: Datasheet; ComponentLink1URL: https://wmsc.lcsc.com/wmsc/upload/file/pdf/v2/lcsc/2206010200_UNI-ROYAL-Uniroyal-Elec-0805W8F470KT5E_C17675.pdf; ComponentLink2Description: JLCPCB Part URL; ComponentLink2URL: https://jlcpcb.com/partdetail/C17675
pins: 1, 2
1 alternate drawing of the same symbol

## 0805W8F499JT5E
designator R?  Resistance: 49.9Ω  (hidden comment: *)
Resistor, 49.9Ω, ±1%, 125mW, 150V, ±100ppm/℃, -55℃~+155℃, SMD 0805; Manufacturer: Uniroyal; Manufacturer Part Number: 0805W8F499JT5E; Supplier 1: LCSC; Supplier Part Number 1: C17720; JLCPCB Part Number: C17720; Power Rating: 125mW; Category: Resistors; Package Size: 0805; JLCPCB Basic Part: Yes; Tolerance: ±1%; Voltage Rating: 150V; Temperature Coefficient: ±100ppm/℃; Temperature Rating: -55℃~+155℃; ComponentLink1Description: Datasheet; ComponentLink1URL: https://wmsc.lcsc.com/wmsc/upload/file/pdf/v2/lcsc/2206010200_UNI-ROYAL-Uniroyal-Elec-0805W8F499JT5E_C17720.pdf; ComponentLink2Description: JLCPCB Part URL; ComponentLink2URL: https://jlcpcb.com/partdetail/C17720
pins: 1, 2
1 alternate drawing of the same symbol

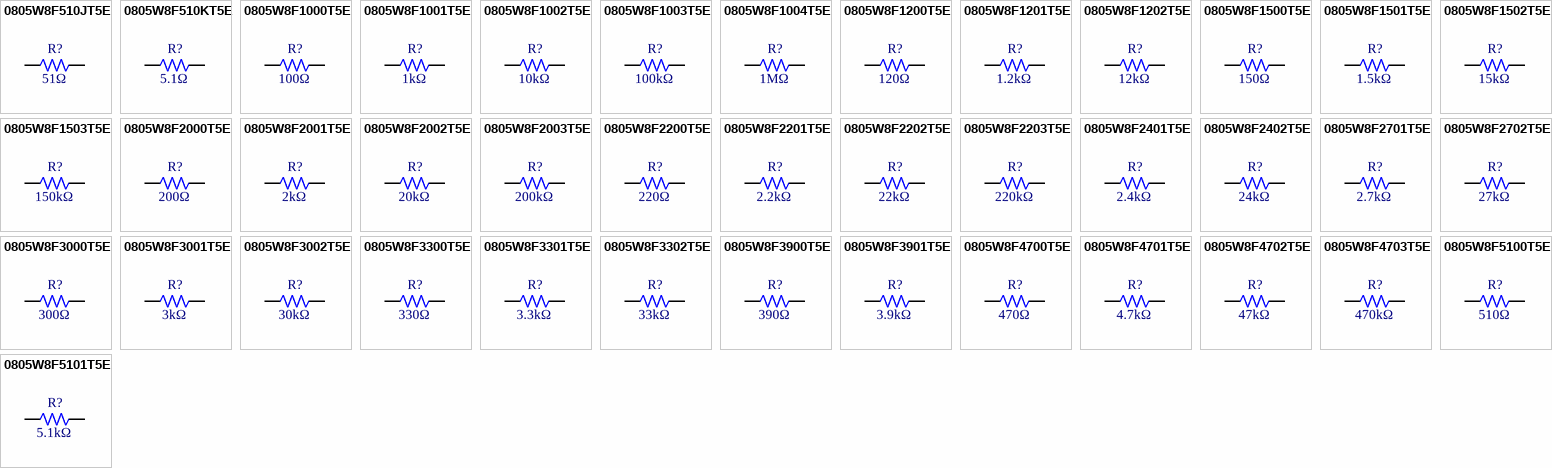
[diagram p3: symbols 0805W8F510JT5E to 0805W8F5101T5E]

## 0805W8F510JT5E
designator R?  Resistance: 51Ω  (hidden comment: *)
Resistor, 51Ω, ±1%, 125mW, 150V, ±100ppm/℃, -55℃~+155℃, SMD 0805; Manufacturer: Uniroyal; Manufacturer Part Number: 0805W8F510JT5E; Supplier 1: LCSC; Supplier Part Number 1: C17738; JLCPCB Part Number: C17738; Power Rating: 125mW; Category: Resistors; Package Size: 0805; JLCPCB Basic Part: Yes; Tolerance: ±1%; Voltage Rating: 150V; Temperature Coefficient: ±100ppm/℃; Temperature Rating: -55℃~+155℃; ComponentLink1Description: Datasheet; ComponentLink1URL: https://wmsc.lcsc.com/wmsc/upload/file/pdf/v2/lcsc/2206010200_UNI-ROYAL-Uniroyal-Elec-0805W8F510JT5E_C17738.pdf; ComponentLink2Description: JLCPCB Part URL; ComponentLink2URL: https://jlcpcb.com/partdetail/C17738
pins: 1, 2
1 alternate drawing of the same symbol

## 0805W8F510KT5E
designator R?  Resistance: 5.1Ω  (hidden comment: *)
Resistor, 5.1Ω, ±1%, 125mW, 150V, ±400ppm/℃, -55℃~+155℃, SMD 0805; Manufacturer: Uniroyal; Manufacturer Part Number: 0805W8F510KT5E; Supplier 1: LCSC; Supplier Part Number 1: C17724; JLCPCB Part Number: C17724; Power Rating: 125mW; Category: Resistors; Package Size: 0805; JLCPCB Basic Part: Yes; Tolerance: ±1%; Voltage Rating: 150V; Temperature Coefficient: ±400ppm/℃; Temperature Rating: -55℃~+155℃; ComponentLink1Description: Datasheet; ComponentLink1URL: https://wmsc.lcsc.com/wmsc/upload/file/pdf/v2/lcsc/2206010200_UNI-ROYAL-Uniroyal-Elec-0805W8F510KT5E_C17724.pdf; ComponentLink2Description: JLCPCB Part URL; ComponentLink2URL: https://jlcpcb.com/partdetail/C17724
pins: 1, 2
1 alternate drawing of the same symbol

## 0805W8F1000T5E
designator R?  Resistance: 100Ω  (hidden comment: *)
Resistor, 100Ω, ±1%, 125mW, 150V, ±100ppm/℃, -55℃~+155℃, SMD 0805; Manufacturer: Uniroyal; Manufacturer Part Number: 0805W8F1000T5E; Supplier 1: LCSC; Supplier Part Number 1: C17408; JLCPCB Part Number: C17408; Power Rating: 125mW; Category: Resistors; Package Size: 0805; JLCPCB Basic Part: Yes; Tolerance: ±1%; Voltage Rating: 150V; Temperature Coefficient: ±100ppm/℃; Temperature Rating: -55℃~+155℃; ComponentLink1Description: Datasheet; ComponentLink1URL: https://wmsc.lcsc.com/wmsc/upload/file/pdf/v2/lcsc/2206010216_UNI-ROYAL-Uniroyal-Elec-0805W8F1000T5E_C17408.pdf; ComponentLink2Description: JLCPCB Part URL; ComponentLink2URL: https://jlcpcb.com/partdetail/C17408
pins: 1, 2
1 alternate drawing of the same symbol

## 0805W8F1001T5E
designator R?  Resistance: 1kΩ  (hidden comment: *)
Resistor, 1kΩ, ±1%, 125mW, 150V, ±100ppm/℃, -55℃~+155℃, SMD 0805; Manufacturer: Uniroyal; Manufacturer Part Number: 0805W8F1001T5E; Supplier 1: LCSC; Supplier Part Number 1: C17513; JLCPCB Part Number: C17513; Power Rating: 125mW; Category: Resistors; Package Size: 0805; JLCPCB Basic Part: Yes; Tolerance: ±1%; Voltage Rating: 150V; Temperature Coefficient: ±100ppm/℃; Temperature Rating: -55℃~+155℃; ComponentLink1Description: Datasheet; ComponentLink1URL: https://wmsc.lcsc.com/wmsc/upload/file/pdf/v2/lcsc/2205311800_UNI-ROYAL-Uniroyal-Elec-0805W8F1001T5E_C17513.pdf; ComponentLink2Description: JLCPCB Part URL; ComponentLink2URL: https://jlcpcb.com/partdetail/C17513
pins: 1, 2
1 alternate drawing of the same symbol